# Altium integrated library Maxim Supervisors, Voltage Monitors and Sequencers.IntLib: 631 symbols (part 8 of 13)
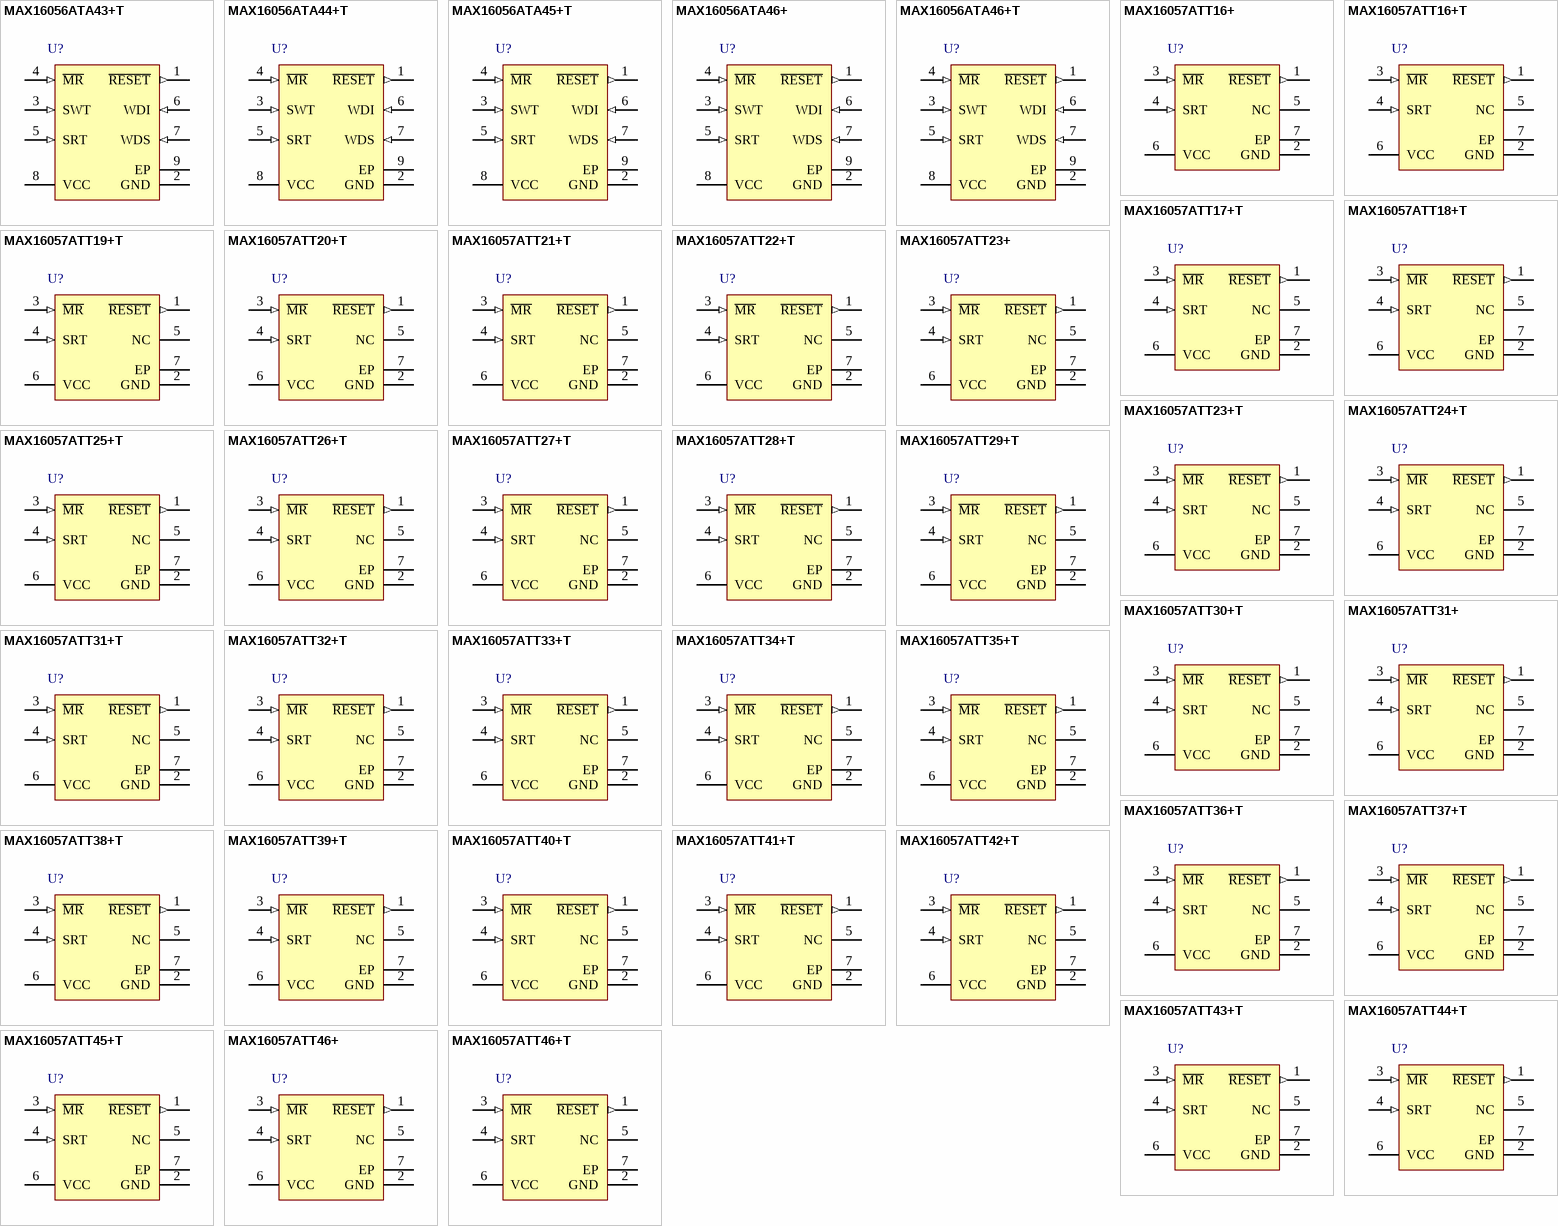
[diagram p24: symbols MAX16056ATA43+T to MAX16057ATT46+T]

## MAX16057ATT23+T
designator U?
125nA Supervisory Circuit with Capacitor-Adjustable Reset and Watchdog Timeouts, push-pull reset, 6-Pin TDFN, -40°C to +125°C, Pb-Free, Tape and Reel; DatasheetVersion: Rev 1, Jun-2010; PackageVersion: revJ, 2009; PackageReference: T633+2; PackageDescription: 6-Pin Plastic Very Very Thin Dual Flatpack No Leads, Exposed Pad, 3 x 3 x 0.8 mm Body, TDFN-EP, Pb-Free; Code_JEDEC: MO-229-WEEA; ComponentLink1Description: Manufacturer URL; ComponentLink1URL: http://www.maxim-ic.com; ComponentLink2Description: Datasheet; ComponentLink2URL: http://datasheets.maxim-ic.com/en/ds/MAX16056-MAX16059.pdf; ComponentLink3Description: Package Specification; ComponentLink3URL: http://pdfserv.maxim-ic.com/package_dwgs/21-0137.PDF
footprint T633+2_V (SON, 6-Leads, Body 3x3mm, Pitch 0.95mm, Thermal Pad 2.35x1.6mm, Maxim Recommended)
pins: 1 ~{RESET} (out), 2 GND (power), 3 ~{MR} (in), 4 SRT (in), 5 NC, 6 VCC (power), 7 EP (power)

## MAX16057ATT24+T
designator U?
125nA Supervisory Circuit with Capacitor-Adjustable Reset and Watchdog Timeouts, push-pull reset, 6-Pin TDFN, -40°C to +125°C, Pb-Free, Tape and Reel; DatasheetVersion: Rev 1, Jun-2010; PackageVersion: revJ, 2009; PackageReference: T633+2; PackageDescription: 6-Pin Plastic Very Very Thin Dual Flatpack No Leads, Exposed Pad, 3 x 3 x 0.8 mm Body, TDFN-EP, Pb-Free; Code_JEDEC: MO-229-WEEA; ComponentLink1Description: Manufacturer URL; ComponentLink1URL: http://www.maxim-ic.com; ComponentLink2Description: Datasheet; ComponentLink2URL: http://datasheets.maxim-ic.com/en/ds/MAX16056-MAX16059.pdf; ComponentLink3Description: Package Specification; ComponentLink3URL: http://pdfserv.maxim-ic.com/package_dwgs/21-0137.PDF
footprint T633+2_V (SON, 6-Leads, Body 3x3mm, Pitch 0.95mm, Thermal Pad 2.35x1.6mm, Maxim Recommended)
pins: 1 ~{RESET} (out), 2 GND (power), 3 ~{MR} (in), 4 SRT (in), 5 NC, 6 VCC (power), 7 EP (power)

## MAX16057ATT25+T
designator U?
125nA Supervisory Circuit with Capacitor-Adjustable Reset and Watchdog Timeouts, push-pull reset, 6-Pin TDFN, -40°C to +125°C, Pb-Free, Tape and Reel; DatasheetVersion: Rev 1, Jun-2010; PackageVersion: revJ, 2009; PackageReference: T633+2; PackageDescription: 6-Pin Plastic Very Very Thin Dual Flatpack No Leads, Exposed Pad, 3 x 3 x 0.8 mm Body, TDFN-EP, Pb-Free; Code_JEDEC: MO-229-WEEA; ComponentLink1Description: Manufacturer URL; ComponentLink1URL: http://www.maxim-ic.com; ComponentLink2Description: Datasheet; ComponentLink2URL: http://datasheets.maxim-ic.com/en/ds/MAX16056-MAX16059.pdf; ComponentLink3Description: Package Specification; ComponentLink3URL: http://pdfserv.maxim-ic.com/package_dwgs/21-0137.PDF
footprint T633+2_V (SON, 6-Leads, Body 3x3mm, Pitch 0.95mm, Thermal Pad 2.35x1.6mm, Maxim Recommended)
pins: 1 ~{RESET} (out), 2 GND (power), 3 ~{MR} (in), 4 SRT (in), 5 NC, 6 VCC (power), 7 EP (power)

## MAX16057ATT26+T
designator U?
125nA Supervisory Circuit with Capacitor-Adjustable Reset and Watchdog Timeouts, push-pull reset, 6-Pin TDFN, -40°C to +125°C, Pb-Free, Tape and Reel; DatasheetVersion: Rev 1, Jun-2010; PackageVersion: revJ, 2009; PackageReference: T633+2; PackageDescription: 6-Pin Plastic Very Very Thin Dual Flatpack No Leads, Exposed Pad, 3 x 3 x 0.8 mm Body, TDFN-EP, Pb-Free; Code_JEDEC: MO-229-WEEA; ComponentLink1Description: Manufacturer URL; ComponentLink1URL: http://www.maxim-ic.com; ComponentLink2Description: Datasheet; ComponentLink2URL: http://datasheets.maxim-ic.com/en/ds/MAX16056-MAX16059.pdf; ComponentLink3Description: Package Specification; ComponentLink3URL: http://pdfserv.maxim-ic.com/package_dwgs/21-0137.PDF
footprint T633+2_V (SON, 6-Leads, Body 3x3mm, Pitch 0.95mm, Thermal Pad 2.35x1.6mm, Maxim Recommended)
pins: 1 ~{RESET} (out), 2 GND (power), 3 ~{MR} (in), 4 SRT (in), 5 NC, 6 VCC (power), 7 EP (power)

## MAX16057ATT27+T
designator U?
125nA Supervisory Circuit with Capacitor-Adjustable Reset and Watchdog Timeouts, push-pull reset, 6-Pin TDFN, -40°C to +125°C, Pb-Free, Tape and Reel; DatasheetVersion: Rev 1, Jun-2010; PackageVersion: revJ, 2009; PackageReference: T633+2; PackageDescription: 6-Pin Plastic Very Very Thin Dual Flatpack No Leads, Exposed Pad, 3 x 3 x 0.8 mm Body, TDFN-EP, Pb-Free; Code_JEDEC: MO-229-WEEA; ComponentLink1Description: Manufacturer URL; ComponentLink1URL: http://www.maxim-ic.com; ComponentLink2Description: Datasheet; ComponentLink2URL: http://datasheets.maxim-ic.com/en/ds/MAX16056-MAX16059.pdf; ComponentLink3Description: Package Specification; ComponentLink3URL: http://pdfserv.maxim-ic.com/package_dwgs/21-0137.PDF
footprint T633+2_V (SON, 6-Leads, Body 3x3mm, Pitch 0.95mm, Thermal Pad 2.35x1.6mm, Maxim Recommended)
pins: 1 ~{RESET} (out), 2 GND (power), 3 ~{MR} (in), 4 SRT (in), 5 NC, 6 VCC (power), 7 EP (power)

## MAX16057ATT28+T
designator U?
125nA Supervisory Circuit with Capacitor-Adjustable Reset and Watchdog Timeouts, push-pull reset, 6-Pin TDFN, -40°C to +125°C, Pb-Free, Tape and Reel; DatasheetVersion: Rev 1, Jun-2010; PackageVersion: revJ, 2009; PackageReference: T633+2; PackageDescription: 6-Pin Plastic Very Very Thin Dual Flatpack No Leads, Exposed Pad, 3 x 3 x 0.8 mm Body, TDFN-EP, Pb-Free; Code_JEDEC: MO-229-WEEA; ComponentLink1Description: Manufacturer URL; ComponentLink1URL: http://www.maxim-ic.com; ComponentLink2Description: Datasheet; ComponentLink2URL: http://datasheets.maxim-ic.com/en/ds/MAX16056-MAX16059.pdf; ComponentLink3Description: Package Specification; ComponentLink3URL: http://pdfserv.maxim-ic.com/package_dwgs/21-0137.PDF
footprint T633+2_V (SON, 6-Leads, Body 3x3mm, Pitch 0.95mm, Thermal Pad 2.35x1.6mm, Maxim Recommended)
pins: 1 ~{RESET} (out), 2 GND (power), 3 ~{MR} (in), 4 SRT (in), 5 NC, 6 VCC (power), 7 EP (power)

## MAX16057ATT29+T
designator U?
125nA Supervisory Circuit with Capacitor-Adjustable Reset and Watchdog Timeouts, push-pull reset, 6-Pin TDFN, -40°C to +125°C, Pb-Free, Tape and Reel; DatasheetVersion: Rev 1, Jun-2010; PackageVersion: revJ, 2009; PackageReference: T633+2; PackageDescription: 6-Pin Plastic Very Very Thin Dual Flatpack No Leads, Exposed Pad, 3 x 3 x 0.8 mm Body, TDFN-EP, Pb-Free; Code_JEDEC: MO-229-WEEA; ComponentLink1Description: Manufacturer URL; ComponentLink1URL: http://www.maxim-ic.com; ComponentLink2Description: Datasheet; ComponentLink2URL: http://datasheets.maxim-ic.com/en/ds/MAX16056-MAX16059.pdf; ComponentLink3Description: Package Specification; ComponentLink3URL: http://pdfserv.maxim-ic.com/package_dwgs/21-0137.PDF
footprint T633+2_V (SON, 6-Leads, Body 3x3mm, Pitch 0.95mm, Thermal Pad 2.35x1.6mm, Maxim Recommended)
pins: 1 ~{RESET} (out), 2 GND (power), 3 ~{MR} (in), 4 SRT (in), 5 NC, 6 VCC (power), 7 EP (power)

## MAX16057ATT30+T
designator U?
125nA Supervisory Circuit with Capacitor-Adjustable Reset and Watchdog Timeouts, push-pull reset, 6-Pin TDFN, -40°C to +125°C, Pb-Free, Tape and Reel; DatasheetVersion: Rev 1, Jun-2010; PackageVersion: revJ, 2009; PackageReference: T633+2; PackageDescription: 6-Pin Plastic Very Very Thin Dual Flatpack No Leads, Exposed Pad, 3 x 3 x 0.8 mm Body, TDFN-EP, Pb-Free; Code_JEDEC: MO-229-WEEA; ComponentLink1Description: Manufacturer URL; ComponentLink1URL: http://www.maxim-ic.com; ComponentLink2Description: Datasheet; ComponentLink2URL: http://datasheets.maxim-ic.com/en/ds/MAX16056-MAX16059.pdf; ComponentLink3Description: Package Specification; ComponentLink3URL: http://pdfserv.maxim-ic.com/package_dwgs/21-0137.PDF
footprint T633+2_V (SON, 6-Leads, Body 3x3mm, Pitch 0.95mm, Thermal Pad 2.35x1.6mm, Maxim Recommended)
pins: 1 ~{RESET} (out), 2 GND (power), 3 ~{MR} (in), 4 SRT (in), 5 NC, 6 VCC (power), 7 EP (power)

## MAX16057ATT31+
designator U?
125nA Supervisory Circuit with Capacitor-Adjustable Reset and Watchdog Timeouts, push-pull reset, 6-Pin TDFN, -40°C to +125°C, Pb-Free; DatasheetVersion: Rev 1, Jun-2010; PackageVersion: revJ, 2009; PackageReference: T633+2; PackageDescription: 6-Pin Plastic Very Very Thin Dual Flatpack No Leads, Exposed Pad, 3 x 3 x 0.8 mm Body, TDFN-EP, Pb-Free; Code_JEDEC: MO-229-WEEA; ComponentLink1Description: Manufacturer URL; ComponentLink1URL: http://www.maxim-ic.com; ComponentLink2Description: Datasheet; ComponentLink2URL: http://datasheets.maxim-ic.com/en/ds/MAX16056-MAX16059.pdf; ComponentLink3Description: Package Specification; ComponentLink3URL: http://pdfserv.maxim-ic.com/package_dwgs/21-0137.PDF
footprint T633+2_V (SON, 6-Leads, Body 3x3mm, Pitch 0.95mm, Thermal Pad 2.35x1.6mm, Maxim Recommended)
pins: 1 ~{RESET} (out), 2 GND (power), 3 ~{MR} (in), 4 SRT (in), 5 NC, 6 VCC (power), 7 EP (power)

## MAX16057ATT31+T
designator U?
125nA Supervisory Circuit with Capacitor-Adjustable Reset and Watchdog Timeouts, push-pull reset, 6-Pin TDFN, -40°C to +125°C, Pb-Free, Tape and Reel; DatasheetVersion: Rev 1, Jun-2010; PackageVersion: revJ, 2009; PackageReference: T633+2; PackageDescription: 6-Pin Plastic Very Very Thin Dual Flatpack No Leads, Exposed Pad, 3 x 3 x 0.8 mm Body, TDFN-EP, Pb-Free; Code_JEDEC: MO-229-WEEA; ComponentLink1Description: Manufacturer URL; ComponentLink1URL: http://www.maxim-ic.com; ComponentLink2Description: Datasheet; ComponentLink2URL: http://datasheets.maxim-ic.com/en/ds/MAX16056-MAX16059.pdf; ComponentLink3Description: Package Specification; ComponentLink3URL: http://pdfserv.maxim-ic.com/package_dwgs/21-0137.PDF
footprint T633+2_V (SON, 6-Leads, Body 3x3mm, Pitch 0.95mm, Thermal Pad 2.35x1.6mm, Maxim Recommended)
pins: 1 ~{RESET} (out), 2 GND (power), 3 ~{MR} (in), 4 SRT (in), 5 NC, 6 VCC (power), 7 EP (power)

## MAX16057ATT32+T
designator U?
125nA Supervisory Circuit with Capacitor-Adjustable Reset and Watchdog Timeouts, push-pull reset, 6-Pin TDFN, -40°C to +125°C, Pb-Free, Tape and Reel; DatasheetVersion: Rev 1, Jun-2010; PackageVersion: revJ, 2009; PackageReference: T633+2; PackageDescription: 6-Pin Plastic Very Very Thin Dual Flatpack No Leads, Exposed Pad, 3 x 3 x 0.8 mm Body, TDFN-EP, Pb-Free; Code_JEDEC: MO-229-WEEA; ComponentLink1Description: Manufacturer URL; ComponentLink1URL: http://www.maxim-ic.com; ComponentLink2Description: Datasheet; ComponentLink2URL: http://datasheets.maxim-ic.com/en/ds/MAX16056-MAX16059.pdf; ComponentLink3Description: Package Specification; ComponentLink3URL: http://pdfserv.maxim-ic.com/package_dwgs/21-0137.PDF
footprint T633+2_V (SON, 6-Leads, Body 3x3mm, Pitch 0.95mm, Thermal Pad 2.35x1.6mm, Maxim Recommended)
pins: 1 ~{RESET} (out), 2 GND (power), 3 ~{MR} (in), 4 SRT (in), 5 NC, 6 VCC (power), 7 EP (power)

## MAX16057ATT33+T
designator U?
125nA Supervisory Circuit with Capacitor-Adjustable Reset and Watchdog Timeouts, push-pull reset, 6-Pin TDFN, -40°C to +125°C, Pb-Free, Tape and Reel; DatasheetVersion: Rev 1, Jun-2010; PackageVersion: revJ, 2009; PackageReference: T633+2; PackageDescription: 6-Pin Plastic Very Very Thin Dual Flatpack No Leads, Exposed Pad, 3 x 3 x 0.8 mm Body, TDFN-EP, Pb-Free; Code_JEDEC: MO-229-WEEA; ComponentLink1Description: Manufacturer URL; ComponentLink1URL: http://www.maxim-ic.com; ComponentLink2Description: Datasheet; ComponentLink2URL: http://datasheets.maxim-ic.com/en/ds/MAX16056-MAX16059.pdf; ComponentLink3Description: Package Specification; ComponentLink3URL: http://pdfserv.maxim-ic.com/package_dwgs/21-0137.PDF
footprint T633+2_V (SON, 6-Leads, Body 3x3mm, Pitch 0.95mm, Thermal Pad 2.35x1.6mm, Maxim Recommended)
pins: 1 ~{RESET} (out), 2 GND (power), 3 ~{MR} (in), 4 SRT (in), 5 NC, 6 VCC (power), 7 EP (power)

## MAX16057ATT34+T
designator U?
125nA Supervisory Circuit with Capacitor-Adjustable Reset and Watchdog Timeouts, push-pull reset, 6-Pin TDFN, -40°C to +125°C, Pb-Free, Tape and Reel; DatasheetVersion: Rev 1, Jun-2010; PackageVersion: revJ, 2009; PackageReference: T633+2; PackageDescription: 6-Pin Plastic Very Very Thin Dual Flatpack No Leads, Exposed Pad, 3 x 3 x 0.8 mm Body, TDFN-EP, Pb-Free; Code_JEDEC: MO-229-WEEA; ComponentLink1Description: Manufacturer URL; ComponentLink1URL: http://www.maxim-ic.com; ComponentLink2Description: Datasheet; ComponentLink2URL: http://datasheets.maxim-ic.com/en/ds/MAX16056-MAX16059.pdf; ComponentLink3Description: Package Specification; ComponentLink3URL: http://pdfserv.maxim-ic.com/package_dwgs/21-0137.PDF
footprint T633+2_V (SON, 6-Leads, Body 3x3mm, Pitch 0.95mm, Thermal Pad 2.35x1.6mm, Maxim Recommended)
pins: 1 ~{RESET} (out), 2 GND (power), 3 ~{MR} (in), 4 SRT (in), 5 NC, 6 VCC (power), 7 EP (power)

## MAX16057ATT35+T
designator U?
125nA Supervisory Circuit with Capacitor-Adjustable Reset and Watchdog Timeouts, push-pull reset, 6-Pin TDFN, -40°C to +125°C, Pb-Free, Tape and Reel; DatasheetVersion: Rev 1, Jun-2010; PackageVersion: revJ, 2009; PackageReference: T633+2; PackageDescription: 6-Pin Plastic Very Very Thin Dual Flatpack No Leads, Exposed Pad, 3 x 3 x 0.8 mm Body, TDFN-EP, Pb-Free; Code_JEDEC: MO-229-WEEA; ComponentLink1Description: Manufacturer URL; ComponentLink1URL: http://www.maxim-ic.com; ComponentLink2Description: Datasheet; ComponentLink2URL: http://datasheets.maxim-ic.com/en/ds/MAX16056-MAX16059.pdf; ComponentLink3Description: Package Specification; ComponentLink3URL: http://pdfserv.maxim-ic.com/package_dwgs/21-0137.PDF
footprint T633+2_V (SON, 6-Leads, Body 3x3mm, Pitch 0.95mm, Thermal Pad 2.35x1.6mm, Maxim Recommended)
pins: 1 ~{RESET} (out), 2 GND (power), 3 ~{MR} (in), 4 SRT (in), 5 NC, 6 VCC (power), 7 EP (power)

## MAX16057ATT36+T
designator U?
125nA Supervisory Circuit with Capacitor-Adjustable Reset and Watchdog Timeouts, push-pull reset, 6-Pin TDFN, -40°C to +125°C, Pb-Free, Tape and Reel; DatasheetVersion: Rev 1, Jun-2010; PackageVersion: revJ, 2009; PackageReference: T633+2; PackageDescription: 6-Pin Plastic Very Very Thin Dual Flatpack No Leads, Exposed Pad, 3 x 3 x 0.8 mm Body, TDFN-EP, Pb-Free; Code_JEDEC: MO-229-WEEA; ComponentLink1Description: Manufacturer URL; ComponentLink1URL: http://www.maxim-ic.com; ComponentLink2Description: Datasheet; ComponentLink2URL: http://datasheets.maxim-ic.com/en/ds/MAX16056-MAX16059.pdf; ComponentLink3Description: Package Specification; ComponentLink3URL: http://pdfserv.maxim-ic.com/package_dwgs/21-0137.PDF
footprint T633+2_V (SON, 6-Leads, Body 3x3mm, Pitch 0.95mm, Thermal Pad 2.35x1.6mm, Maxim Recommended)
pins: 1 ~{RESET} (out), 2 GND (power), 3 ~{MR} (in), 4 SRT (in), 5 NC, 6 VCC (power), 7 EP (power)

## MAX16057ATT37+T
designator U?
125nA Supervisory Circuit with Capacitor-Adjustable Reset and Watchdog Timeouts, push-pull reset, 6-Pin TDFN, -40°C to +125°C, Pb-Free, Tape and Reel; DatasheetVersion: Rev 1, Jun-2010; PackageVersion: revJ, 2009; PackageReference: T633+2; PackageDescription: 6-Pin Plastic Very Very Thin Dual Flatpack No Leads, Exposed Pad, 3 x 3 x 0.8 mm Body, TDFN-EP, Pb-Free; Code_JEDEC: MO-229-WEEA; ComponentLink1Description: Manufacturer URL; ComponentLink1URL: http://www.maxim-ic.com; ComponentLink2Description: Datasheet; ComponentLink2URL: http://datasheets.maxim-ic.com/en/ds/MAX16056-MAX16059.pdf; ComponentLink3Description: Package Specification; ComponentLink3URL: http://pdfserv.maxim-ic.com/package_dwgs/21-0137.PDF
footprint T633+2_V (SON, 6-Leads, Body 3x3mm, Pitch 0.95mm, Thermal Pad 2.35x1.6mm, Maxim Recommended)
pins: 1 ~{RESET} (out), 2 GND (power), 3 ~{MR} (in), 4 SRT (in), 5 NC, 6 VCC (power), 7 EP (power)

## MAX16057ATT38+T
designator U?
125nA Supervisory Circuit with Capacitor-Adjustable Reset and Watchdog Timeouts, push-pull reset, 6-Pin TDFN, -40°C to +125°C, Pb-Free, Tape and Reel; DatasheetVersion: Rev 1, Jun-2010; PackageVersion: revJ, 2009; PackageReference: T633+2; PackageDescription: 6-Pin Plastic Very Very Thin Dual Flatpack No Leads, Exposed Pad, 3 x 3 x 0.8 mm Body, TDFN-EP, Pb-Free; Code_JEDEC: MO-229-WEEA; ComponentLink1Description: Manufacturer URL; ComponentLink1URL: http://www.maxim-ic.com; ComponentLink2Description: Datasheet; ComponentLink2URL: http://datasheets.maxim-ic.com/en/ds/MAX16056-MAX16059.pdf; ComponentLink3Description: Package Specification; ComponentLink3URL: http://pdfserv.maxim-ic.com/package_dwgs/21-0137.PDF
footprint T633+2_V (SON, 6-Leads, Body 3x3mm, Pitch 0.95mm, Thermal Pad 2.35x1.6mm, Maxim Recommended)
pins: 1 ~{RESET} (out), 2 GND (power), 3 ~{MR} (in), 4 SRT (in), 5 NC, 6 VCC (power), 7 EP (power)

## MAX16057ATT39+T
designator U?
125nA Supervisory Circuit with Capacitor-Adjustable Reset and Watchdog Timeouts, push-pull reset, 6-Pin TDFN, -40°C to +125°C, Pb-Free, Tape and Reel; DatasheetVersion: Rev 1, Jun-2010; PackageVersion: revJ, 2009; PackageReference: T633+2; PackageDescription: 6-Pin Plastic Very Very Thin Dual Flatpack No Leads, Exposed Pad, 3 x 3 x 0.8 mm Body, TDFN-EP, Pb-Free; Code_JEDEC: MO-229-WEEA; ComponentLink1Description: Manufacturer URL; ComponentLink1URL: http://www.maxim-ic.com; ComponentLink2Description: Datasheet; ComponentLink2URL: http://datasheets.maxim-ic.com/en/ds/MAX16056-MAX16059.pdf; ComponentLink3Description: Package Specification; ComponentLink3URL: http://pdfserv.maxim-ic.com/package_dwgs/21-0137.PDF
footprint T633+2_V (SON, 6-Leads, Body 3x3mm, Pitch 0.95mm, Thermal Pad 2.35x1.6mm, Maxim Recommended)
pins: 1 ~{RESET} (out), 2 GND (power), 3 ~{MR} (in), 4 SRT (in), 5 NC, 6 VCC (power), 7 EP (power)

## MAX16057ATT40+T
designator U?
125nA Supervisory Circuit with Capacitor-Adjustable Reset and Watchdog Timeouts, push-pull reset, 6-Pin TDFN, -40°C to +125°C, Pb-Free, Tape and Reel; DatasheetVersion: Rev 1, Jun-2010; PackageVersion: revJ, 2009; PackageReference: T633+2; PackageDescription: 6-Pin Plastic Very Very Thin Dual Flatpack No Leads, Exposed Pad, 3 x 3 x 0.8 mm Body, TDFN-EP, Pb-Free; Code_JEDEC: MO-229-WEEA; ComponentLink1Description: Manufacturer URL; ComponentLink1URL: http://www.maxim-ic.com; ComponentLink2Description: Datasheet; ComponentLink2URL: http://datasheets.maxim-ic.com/en/ds/MAX16056-MAX16059.pdf; ComponentLink3Description: Package Specification; ComponentLink3URL: http://pdfserv.maxim-ic.com/package_dwgs/21-0137.PDF
footprint T633+2_V (SON, 6-Leads, Body 3x3mm, Pitch 0.95mm, Thermal Pad 2.35x1.6mm, Maxim Recommended)
pins: 1 ~{RESET} (out), 2 GND (power), 3 ~{MR} (in), 4 SRT (in), 5 NC, 6 VCC (power), 7 EP (power)

## MAX16057ATT41+T
designator U?
125nA Supervisory Circuit with Capacitor-Adjustable Reset and Watchdog Timeouts, push-pull reset, 6-Pin TDFN, -40°C to +125°C, Pb-Free, Tape and Reel; DatasheetVersion: Rev 1, Jun-2010; PackageVersion: revJ, 2009; PackageReference: T633+2; PackageDescription: 6-Pin Plastic Very Very Thin Dual Flatpack No Leads, Exposed Pad, 3 x 3 x 0.8 mm Body, TDFN-EP, Pb-Free; Code_JEDEC: MO-229-WEEA; ComponentLink1Description: Manufacturer URL; ComponentLink1URL: http://www.maxim-ic.com; ComponentLink2Description: Datasheet; ComponentLink2URL: http://datasheets.maxim-ic.com/en/ds/MAX16056-MAX16059.pdf; ComponentLink3Description: Package Specification; ComponentLink3URL: http://pdfserv.maxim-ic.com/package_dwgs/21-0137.PDF
footprint T633+2_V (SON, 6-Leads, Body 3x3mm, Pitch 0.95mm, Thermal Pad 2.35x1.6mm, Maxim Recommended)
pins: 1 ~{RESET} (out), 2 GND (power), 3 ~{MR} (in), 4 SRT (in), 5 NC, 6 VCC (power), 7 EP (power)

## MAX16057ATT42+T
designator U?
125nA Supervisory Circuit with Capacitor-Adjustable Reset and Watchdog Timeouts, push-pull reset, 6-Pin TDFN, -40°C to +125°C, Pb-Free, Tape and Reel; DatasheetVersion: Rev 1, Jun-2010; PackageVersion: revJ, 2009; PackageReference: T633+2; PackageDescription: 6-Pin Plastic Very Very Thin Dual Flatpack No Leads, Exposed Pad, 3 x 3 x 0.8 mm Body, TDFN-EP, Pb-Free; Code_JEDEC: MO-229-WEEA; ComponentLink1Description: Manufacturer URL; ComponentLink1URL: http://www.maxim-ic.com; ComponentLink2Description: Datasheet; ComponentLink2URL: http://datasheets.maxim-ic.com/en/ds/MAX16056-MAX16059.pdf; ComponentLink3Description: Package Specification; ComponentLink3URL: http://pdfserv.maxim-ic.com/package_dwgs/21-0137.PDF
footprint T633+2_V (SON, 6-Leads, Body 3x3mm, Pitch 0.95mm, Thermal Pad 2.35x1.6mm, Maxim Recommended)
pins: 1 ~{RESET} (out), 2 GND (power), 3 ~{MR} (in), 4 SRT (in), 5 NC, 6 VCC (power), 7 EP (power)

## MAX16057ATT43+T
designator U?
125nA Supervisory Circuit with Capacitor-Adjustable Reset and Watchdog Timeouts, push-pull reset, 6-Pin TDFN, -40°C to +125°C, Pb-Free, Tape and Reel; DatasheetVersion: Rev 1, Jun-2010; PackageVersion: revJ, 2009; PackageReference: T633+2; PackageDescription: 6-Pin Plastic Very Very Thin Dual Flatpack No Leads, Exposed Pad, 3 x 3 x 0.8 mm Body, TDFN-EP, Pb-Free; Code_JEDEC: MO-229-WEEA; ComponentLink1Description: Manufacturer URL; ComponentLink1URL: http://www.maxim-ic.com; ComponentLink2Description: Datasheet; ComponentLink2URL: http://datasheets.maxim-ic.com/en/ds/MAX16056-MAX16059.pdf; ComponentLink3Description: Package Specification; ComponentLink3URL: http://pdfserv.maxim-ic.com/package_dwgs/21-0137.PDF
footprint T633+2_V (SON, 6-Leads, Body 3x3mm, Pitch 0.95mm, Thermal Pad 2.35x1.6mm, Maxim Recommended)
pins: 1 ~{RESET} (out), 2 GND (power), 3 ~{MR} (in), 4 SRT (in), 5 NC, 6 VCC (power), 7 EP (power)

## MAX16057ATT44+T
designator U?
125nA Supervisory Circuit with Capacitor-Adjustable Reset and Watchdog Timeouts, push-pull reset, 6-Pin TDFN, -40°C to +125°C, Pb-Free, Tape and Reel; DatasheetVersion: Rev 1, Jun-2010; PackageVersion: revJ, 2009; PackageReference: T633+2; PackageDescription: 6-Pin Plastic Very Very Thin Dual Flatpack No Leads, Exposed Pad, 3 x 3 x 0.8 mm Body, TDFN-EP, Pb-Free; Code_JEDEC: MO-229-WEEA; ComponentLink1Description: Manufacturer URL; ComponentLink1URL: http://www.maxim-ic.com; ComponentLink2Description: Datasheet; ComponentLink2URL: http://datasheets.maxim-ic.com/en/ds/MAX16056-MAX16059.pdf; ComponentLink3Description: Package Specification; ComponentLink3URL: http://pdfserv.maxim-ic.com/package_dwgs/21-0137.PDF
footprint T633+2_V (SON, 6-Leads, Body 3x3mm, Pitch 0.95mm, Thermal Pad 2.35x1.6mm, Maxim Recommended)
pins: 1 ~{RESET} (out), 2 GND (power), 3 ~{MR} (in), 4 SRT (in), 5 NC, 6 VCC (power), 7 EP (power)

## MAX16057ATT45+T
designator U?
125nA Supervisory Circuit with Capacitor-Adjustable Reset and Watchdog Timeouts, push-pull reset, 6-Pin TDFN, -40°C to +125°C, Pb-Free, Tape and Reel; DatasheetVersion: Rev 1, Jun-2010; PackageVersion: revJ, 2009; PackageReference: T633+2; PackageDescription: 6-Pin Plastic Very Very Thin Dual Flatpack No Leads, Exposed Pad, 3 x 3 x 0.8 mm Body, TDFN-EP, Pb-Free; Code_JEDEC: MO-229-WEEA; ComponentLink1Description: Manufacturer URL; ComponentLink1URL: http://www.maxim-ic.com; ComponentLink2Description: Datasheet; ComponentLink2URL: http://datasheets.maxim-ic.com/en/ds/MAX16056-MAX16059.pdf; ComponentLink3Description: Package Specification; ComponentLink3URL: http://pdfserv.maxim-ic.com/package_dwgs/21-0137.PDF
footprint T633+2_V (SON, 6-Leads, Body 3x3mm, Pitch 0.95mm, Thermal Pad 2.35x1.6mm, Maxim Recommended)
pins: 1 ~{RESET} (out), 2 GND (power), 3 ~{MR} (in), 4 SRT (in), 5 NC, 6 VCC (power), 7 EP (power)

## MAX16057ATT46+
designator U?
125nA Supervisory Circuit with Capacitor-Adjustable Reset and Watchdog Timeouts, push-pull reset, 6-Pin TDFN, -40°C to +125°C, Pb-Free; DatasheetVersion: Rev 1, Jun-2010; PackageVersion: revJ, 2009; PackageReference: T633+2; PackageDescription: 6-Pin Plastic Very Very Thin Dual Flatpack No Leads, Exposed Pad, 3 x 3 x 0.8 mm Body, TDFN-EP, Pb-Free; Code_JEDEC: MO-229-WEEA; ComponentLink1Description: Manufacturer URL; ComponentLink1URL: http://www.maxim-ic.com; ComponentLink2Description: Datasheet; ComponentLink2URL: http://datasheets.maxim-ic.com/en/ds/MAX16056-MAX16059.pdf; ComponentLink3Description: Package Specification; ComponentLink3URL: http://pdfserv.maxim-ic.com/package_dwgs/21-0137.PDF
footprint T633+2_V (SON, 6-Leads, Body 3x3mm, Pitch 0.95mm, Thermal Pad 2.35x1.6mm, Maxim Recommended)
pins: 1 ~{RESET} (out), 2 GND (power), 3 ~{MR} (in), 4 SRT (in), 5 NC, 6 VCC (power), 7 EP (power)

## MAX16057ATT46+T
designator U?
125nA Supervisory Circuit with Capacitor-Adjustable Reset and Watchdog Timeouts, push-pull reset, 6-Pin TDFN, -40°C to +125°C, Pb-Free, Tape and Reel; DatasheetVersion: Rev 1, Jun-2010; PackageVersion: revJ, 2009; PackageReference: T633+2; PackageDescription: 6-Pin Plastic Very Very Thin Dual Flatpack No Leads, Exposed Pad, 3 x 3 x 0.8 mm Body, TDFN-EP, Pb-Free; Code_JEDEC: MO-229-WEEA; ComponentLink1Description: Manufacturer URL; ComponentLink1URL: http://www.maxim-ic.com; ComponentLink2Description: Datasheet; ComponentLink2URL: http://datasheets.maxim-ic.com/en/ds/MAX16056-MAX16059.pdf; ComponentLink3Description: Package Specification; ComponentLink3URL: http://pdfserv.maxim-ic.com/package_dwgs/21-0137.PDF
footprint T633+2_V (SON, 6-Leads, Body 3x3mm, Pitch 0.95mm, Thermal Pad 2.35x1.6mm, Maxim Recommended)
pins: 1 ~{RESET} (out), 2 GND (power), 3 ~{MR} (in), 4 SRT (in), 5 NC, 6 VCC (power), 7 EP (power)

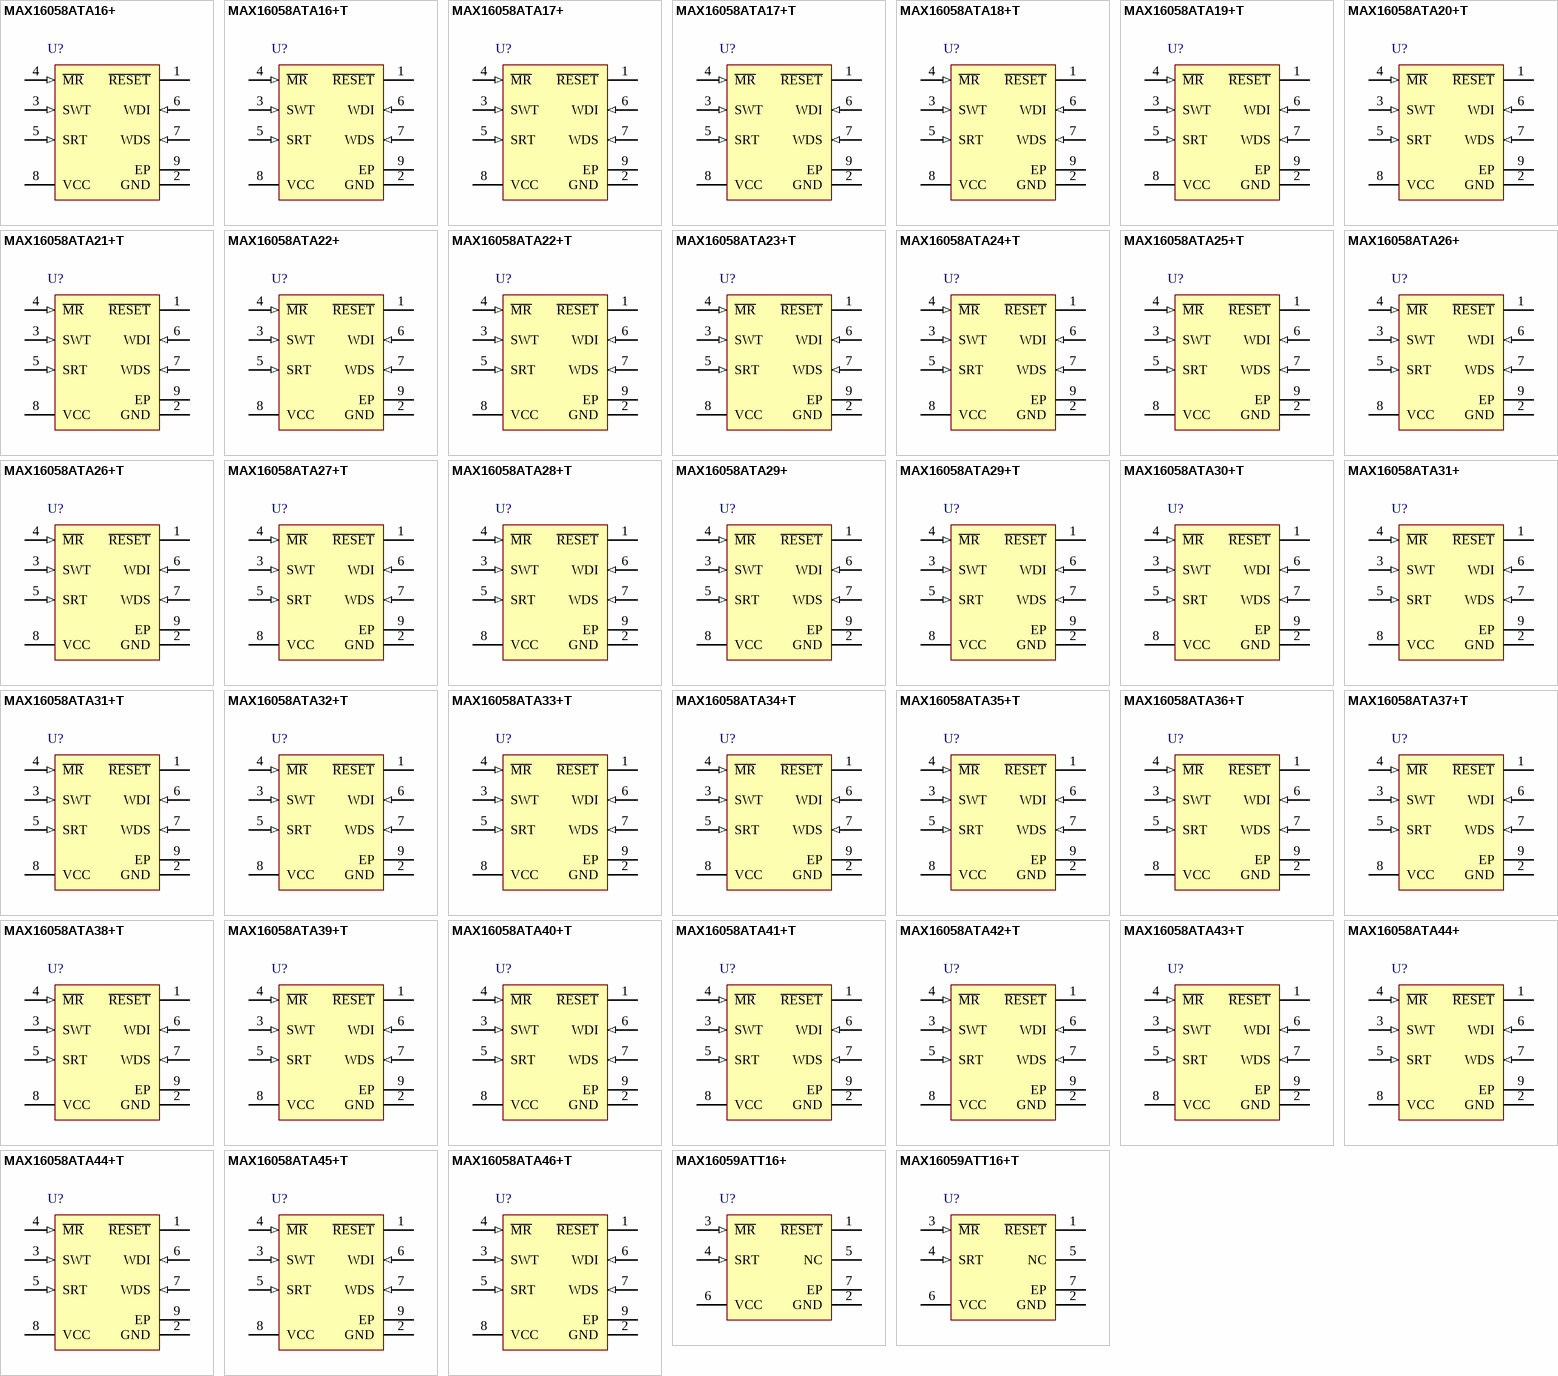
[diagram p10: symbols MAX16058ATA16+ to MAX16059ATT16+T]

## MAX16058ATA16+
designator U?
125nA Supervisory Circuit with Capacitor-Adjustable Reset and Watchdog Timeouts, open-drain reset, Watch-dog timer, 8-Pin TDFN, -40°C to +125°C, Pb-Free; DatasheetVersion: Rev 1, Jun-2010; PackageVersion: revJ, 2009; PackageReference: T833+2; PackageDescription: 8-Pin Plastic Very Very Thin Dual Flatpack No Leads, Exposed Pad, 3 x 3 x 0.8 mm Body, TDFN-EP, Pb-Free; Code_JEDEC: MO-229-WEEC; ComponentLink1Description: Manufacturer URL; ComponentLink1URL: http://www.maxim-ic.com; ComponentLink2Description: Datasheet; ComponentLink2URL: http://datasheets.maxim-ic.com/en/ds/MAX16056-MAX16059.pdf; ComponentLink3Description: Package Specification; ComponentLink3URL: http://pdfserv.maxim-ic.com/package_dwgs/21-0137.PDF
footprint T833+2 (SON, 8-Leads, Body 3x3 mm, Pitch 0.65mm, Thermal Pad 2.35x1.58mm, Maxim Recommended)
pins: 1 ~{RESET} (oc), 2 GND (power), 3 SWT (in), 4 ~{MR} (in), 5 SRT (in), 6 WDI (in), 7 WDS (in), 8 VCC (power), 9 EP (power)

## MAX16058ATA16+T
designator U?
125nA Supervisory Circuit with Capacitor-Adjustable Reset and Watchdog Timeouts, open-drain reset, Watch-dog timer, 8-Pin TDFN, -40°C to +125°C, Pb-Free, Tape and Reel; DatasheetVersion: Rev 1, Jun-2010; PackageVersion: revJ, 2009; PackageReference: T833+2; PackageDescription: 8-Pin Plastic Very Very Thin Dual Flatpack No Leads, Exposed Pad, 3 x 3 x 0.8 mm Body, TDFN-EP, Pb-Free; Code_JEDEC: MO-229-WEEC; ComponentLink1Description: Manufacturer URL; ComponentLink1URL: http://www.maxim-ic.com; ComponentLink2Description: Datasheet; ComponentLink2URL: http://datasheets.maxim-ic.com/en/ds/MAX16056-MAX16059.pdf; ComponentLink3Description: Package Specification; ComponentLink3URL: http://pdfserv.maxim-ic.com/package_dwgs/21-0137.PDF
footprint T833+2 (SON, 8-Leads, Body 3x3 mm, Pitch 0.65mm, Thermal Pad 2.35x1.58mm, Maxim Recommended)
pins: 1 ~{RESET} (oc), 2 GND (power), 3 SWT (in), 4 ~{MR} (in), 5 SRT (in), 6 WDI (in), 7 WDS (in), 8 VCC (power), 9 EP (power)

## MAX16058ATA17+
designator U?
125nA Supervisory Circuit with Capacitor-Adjustable Reset and Watchdog Timeouts, open-drain reset, Watch-dog timer, 8-Pin TDFN, -40°C to +125°C, Pb-Free; DatasheetVersion: Rev 1, Jun-2010; PackageVersion: revJ, 2009; PackageReference: T833+2; PackageDescription: 8-Pin Plastic Very Very Thin Dual Flatpack No Leads, Exposed Pad, 3 x 3 x 0.8 mm Body, TDFN-EP, Pb-Free; Code_JEDEC: MO-229-WEEC; ComponentLink1Description: Manufacturer URL; ComponentLink1URL: http://www.maxim-ic.com; ComponentLink2Description: Datasheet; ComponentLink2URL: http://datasheets.maxim-ic.com/en/ds/MAX16056-MAX16059.pdf; ComponentLink3Description: Package Specification; ComponentLink3URL: http://pdfserv.maxim-ic.com/package_dwgs/21-0137.PDF
footprint T833+2 (SON, 8-Leads, Body 3x3 mm, Pitch 0.65mm, Thermal Pad 2.35x1.58mm, Maxim Recommended)
pins: 1 ~{RESET} (oc), 2 GND (power), 3 SWT (in), 4 ~{MR} (in), 5 SRT (in), 6 WDI (in), 7 WDS (in), 8 VCC (power), 9 EP (power)

## MAX16058ATA17+T
designator U?
125nA Supervisory Circuit with Capacitor-Adjustable Reset and Watchdog Timeouts, open-drain reset, Watch-dog timer, 8-Pin TDFN, -40°C to +125°C, Pb-Free, Tape and Reel; DatasheetVersion: Rev 1, Jun-2010; PackageVersion: revJ, 2009; PackageReference: T833+2; PackageDescription: 8-Pin Plastic Very Very Thin Dual Flatpack No Leads, Exposed Pad, 3 x 3 x 0.8 mm Body, TDFN-EP, Pb-Free; Code_JEDEC: MO-229-WEEC; ComponentLink1Description: Manufacturer URL; ComponentLink1URL: http://www.maxim-ic.com; ComponentLink2Description: Datasheet; ComponentLink2URL: http://datasheets.maxim-ic.com/en/ds/MAX16056-MAX16059.pdf; ComponentLink3Description: Package Specification; ComponentLink3URL: http://pdfserv.maxim-ic.com/package_dwgs/21-0137.PDF
footprint T833+2 (SON, 8-Leads, Body 3x3 mm, Pitch 0.65mm, Thermal Pad 2.35x1.58mm, Maxim Recommended)
pins: 1 ~{RESET} (oc), 2 GND (power), 3 SWT (in), 4 ~{MR} (in), 5 SRT (in), 6 WDI (in), 7 WDS (in), 8 VCC (power), 9 EP (power)

## MAX16058ATA18+T
designator U?
125nA Supervisory Circuit with Capacitor-Adjustable Reset and Watchdog Timeouts, open-drain reset, Watch-dog timer, 8-Pin TDFN, -40°C to +125°C, Pb-Free, Tape and Reel; DatasheetVersion: Rev 1, Jun-2010; PackageVersion: revJ, 2009; PackageReference: T833+2; PackageDescription: 8-Pin Plastic Very Very Thin Dual Flatpack No Leads, Exposed Pad, 3 x 3 x 0.8 mm Body, TDFN-EP, Pb-Free; Code_JEDEC: MO-229-WEEC; ComponentLink1Description: Manufacturer URL; ComponentLink1URL: http://www.maxim-ic.com; ComponentLink2Description: Datasheet; ComponentLink2URL: http://datasheets.maxim-ic.com/en/ds/MAX16056-MAX16059.pdf; ComponentLink3Description: Package Specification; ComponentLink3URL: http://pdfserv.maxim-ic.com/package_dwgs/21-0137.PDF
footprint T833+2 (SON, 8-Leads, Body 3x3 mm, Pitch 0.65mm, Thermal Pad 2.35x1.58mm, Maxim Recommended)
pins: 1 ~{RESET} (oc), 2 GND (power), 3 SWT (in), 4 ~{MR} (in), 5 SRT (in), 6 WDI (in), 7 WDS (in), 8 VCC (power), 9 EP (power)

## MAX16058ATA19+T
designator U?
125nA Supervisory Circuit with Capacitor-Adjustable Reset and Watchdog Timeouts, open-drain reset, Watch-dog timer, 8-Pin TDFN, -40°C to +125°C, Pb-Free, Tape and Reel; DatasheetVersion: Rev 1, Jun-2010; PackageVersion: revJ, 2009; PackageReference: T833+2; PackageDescription: 8-Pin Plastic Very Very Thin Dual Flatpack No Leads, Exposed Pad, 3 x 3 x 0.8 mm Body, TDFN-EP, Pb-Free; Code_JEDEC: MO-229-WEEC; ComponentLink1Description: Manufacturer URL; ComponentLink1URL: http://www.maxim-ic.com; ComponentLink2Description: Datasheet; ComponentLink2URL: http://datasheets.maxim-ic.com/en/ds/MAX16056-MAX16059.pdf; ComponentLink3Description: Package Specification; ComponentLink3URL: http://pdfserv.maxim-ic.com/package_dwgs/21-0137.PDF
footprint T833+2 (SON, 8-Leads, Body 3x3 mm, Pitch 0.65mm, Thermal Pad 2.35x1.58mm, Maxim Recommended)
pins: 1 ~{RESET} (oc), 2 GND (power), 3 SWT (in), 4 ~{MR} (in), 5 SRT (in), 6 WDI (in), 7 WDS (in), 8 VCC (power), 9 EP (power)

## MAX16058ATA20+T
designator U?
125nA Supervisory Circuit with Capacitor-Adjustable Reset and Watchdog Timeouts, open-drain reset, Watch-dog timer, 8-Pin TDFN, -40°C to +125°C, Pb-Free, Tape and Reel; DatasheetVersion: Rev 1, Jun-2010; PackageVersion: revJ, 2009; PackageReference: T833+2; PackageDescription: 8-Pin Plastic Very Very Thin Dual Flatpack No Leads, Exposed Pad, 3 x 3 x 0.8 mm Body, TDFN-EP, Pb-Free; Code_JEDEC: MO-229-WEEC; ComponentLink1Description: Manufacturer URL; ComponentLink1URL: http://www.maxim-ic.com; ComponentLink2Description: Datasheet; ComponentLink2URL: http://datasheets.maxim-ic.com/en/ds/MAX16056-MAX16059.pdf; ComponentLink3Description: Package Specification; ComponentLink3URL: http://pdfserv.maxim-ic.com/package_dwgs/21-0137.PDF
footprint T833+2 (SON, 8-Leads, Body 3x3 mm, Pitch 0.65mm, Thermal Pad 2.35x1.58mm, Maxim Recommended)
pins: 1 ~{RESET} (oc), 2 GND (power), 3 SWT (in), 4 ~{MR} (in), 5 SRT (in), 6 WDI (in), 7 WDS (in), 8 VCC (power), 9 EP (power)

## MAX16058ATA21+T
designator U?
125nA Supervisory Circuit with Capacitor-Adjustable Reset and Watchdog Timeouts, open-drain reset, Watch-dog timer, 8-Pin TDFN, -40°C to +125°C, Pb-Free, Tape and Reel; DatasheetVersion: Rev 1, Jun-2010; PackageVersion: revJ, 2009; PackageReference: T833+2; PackageDescription: 8-Pin Plastic Very Very Thin Dual Flatpack No Leads, Exposed Pad, 3 x 3 x 0.8 mm Body, TDFN-EP, Pb-Free; Code_JEDEC: MO-229-WEEC; ComponentLink1Description: Manufacturer URL; ComponentLink1URL: http://www.maxim-ic.com; ComponentLink2Description: Datasheet; ComponentLink2URL: http://datasheets.maxim-ic.com/en/ds/MAX16056-MAX16059.pdf; ComponentLink3Description: Package Specification; ComponentLink3URL: http://pdfserv.maxim-ic.com/package_dwgs/21-0137.PDF
footprint T833+2 (SON, 8-Leads, Body 3x3 mm, Pitch 0.65mm, Thermal Pad 2.35x1.58mm, Maxim Recommended)
pins: 1 ~{RESET} (oc), 2 GND (power), 3 SWT (in), 4 ~{MR} (in), 5 SRT (in), 6 WDI (in), 7 WDS (in), 8 VCC (power), 9 EP (power)

## MAX16058ATA22+
designator U?
125nA Supervisory Circuit with Capacitor-Adjustable Reset and Watchdog Timeouts, open-drain reset, Watch-dog timer, 8-Pin TDFN, -40°C to +125°C, Pb-Free; DatasheetVersion: Rev 1, Jun-2010; PackageVersion: revJ, 2009; PackageReference: T833+2; PackageDescription: 8-Pin Plastic Very Very Thin Dual Flatpack No Leads, Exposed Pad, 3 x 3 x 0.8 mm Body, TDFN-EP, Pb-Free; Code_JEDEC: MO-229-WEEC; ComponentLink1Description: Manufacturer URL; ComponentLink1URL: http://www.maxim-ic.com; ComponentLink2Description: Datasheet; ComponentLink2URL: http://datasheets.maxim-ic.com/en/ds/MAX16056-MAX16059.pdf; ComponentLink3Description: Package Specification; ComponentLink3URL: http://pdfserv.maxim-ic.com/package_dwgs/21-0137.PDF
footprint T833+2 (SON, 8-Leads, Body 3x3 mm, Pitch 0.65mm, Thermal Pad 2.35x1.58mm, Maxim Recommended)
pins: 1 ~{RESET} (oc), 2 GND (power), 3 SWT (in), 4 ~{MR} (in), 5 SRT (in), 6 WDI (in), 7 WDS (in), 8 VCC (power), 9 EP (power)

## MAX16058ATA22+T
designator U?
125nA Supervisory Circuit with Capacitor-Adjustable Reset and Watchdog Timeouts, open-drain reset, Watch-dog timer, 8-Pin TDFN, -40°C to +125°C, Pb-Free, Tape and Reel; DatasheetVersion: Rev 1, Jun-2010; PackageVersion: revJ, 2009; PackageReference: T833+2; PackageDescription: 8-Pin Plastic Very Very Thin Dual Flatpack No Leads, Exposed Pad, 3 x 3 x 0.8 mm Body, TDFN-EP, Pb-Free; Code_JEDEC: MO-229-WEEC; ComponentLink1Description: Manufacturer URL; ComponentLink1URL: http://www.maxim-ic.com; ComponentLink2Description: Datasheet; ComponentLink2URL: http://datasheets.maxim-ic.com/en/ds/MAX16056-MAX16059.pdf; ComponentLink3Description: Package Specification; ComponentLink3URL: http://pdfserv.maxim-ic.com/package_dwgs/21-0137.PDF
footprint T833+2 (SON, 8-Leads, Body 3x3 mm, Pitch 0.65mm, Thermal Pad 2.35x1.58mm, Maxim Recommended)
pins: 1 ~{RESET} (oc), 2 GND (power), 3 SWT (in), 4 ~{MR} (in), 5 SRT (in), 6 WDI (in), 7 WDS (in), 8 VCC (power), 9 EP (power)

## MAX16058ATA23+T
designator U?
125nA Supervisory Circuit with Capacitor-Adjustable Reset and Watchdog Timeouts, open-drain reset, Watch-dog timer, 8-Pin TDFN, -40°C to +125°C, Pb-Free, Tape and Reel; DatasheetVersion: Rev 1, Jun-2010; PackageVersion: revJ, 2009; PackageReference: T833+2; PackageDescription: 8-Pin Plastic Very Very Thin Dual Flatpack No Leads, Exposed Pad, 3 x 3 x 0.8 mm Body, TDFN-EP, Pb-Free; Code_JEDEC: MO-229-WEEC; ComponentLink1Description: Manufacturer URL; ComponentLink1URL: http://www.maxim-ic.com; ComponentLink2Description: Datasheet; ComponentLink2URL: http://datasheets.maxim-ic.com/en/ds/MAX16056-MAX16059.pdf; ComponentLink3Description: Package Specification; ComponentLink3URL: http://pdfserv.maxim-ic.com/package_dwgs/21-0137.PDF
footprint T833+2 (SON, 8-Leads, Body 3x3 mm, Pitch 0.65mm, Thermal Pad 2.35x1.58mm, Maxim Recommended)
pins: 1 ~{RESET} (oc), 2 GND (power), 3 SWT (in), 4 ~{MR} (in), 5 SRT (in), 6 WDI (in), 7 WDS (in), 8 VCC (power), 9 EP (power)

## MAX16058ATA24+T
designator U?
125nA Supervisory Circuit with Capacitor-Adjustable Reset and Watchdog Timeouts, open-drain reset, Watch-dog timer, 8-Pin TDFN, -40°C to +125°C, Pb-Free, Tape and Reel; DatasheetVersion: Rev 1, Jun-2010; PackageVersion: revJ, 2009; PackageReference: T833+2; PackageDescription: 8-Pin Plastic Very Very Thin Dual Flatpack No Leads, Exposed Pad, 3 x 3 x 0.8 mm Body, TDFN-EP, Pb-Free; Code_JEDEC: MO-229-WEEC; ComponentLink1Description: Manufacturer URL; ComponentLink1URL: http://www.maxim-ic.com; ComponentLink2Description: Datasheet; ComponentLink2URL: http://datasheets.maxim-ic.com/en/ds/MAX16056-MAX16059.pdf; ComponentLink3Description: Package Specification; ComponentLink3URL: http://pdfserv.maxim-ic.com/package_dwgs/21-0137.PDF
footprint T833+2 (SON, 8-Leads, Body 3x3 mm, Pitch 0.65mm, Thermal Pad 2.35x1.58mm, Maxim Recommended)
pins: 1 ~{RESET} (oc), 2 GND (power), 3 SWT (in), 4 ~{MR} (in), 5 SRT (in), 6 WDI (in), 7 WDS (in), 8 VCC (power), 9 EP (power)

## MAX16058ATA25+T
designator U?
125nA Supervisory Circuit with Capacitor-Adjustable Reset and Watchdog Timeouts, open-drain reset, Watch-dog timer, 8-Pin TDFN, -40°C to +125°C, Pb-Free, Tape and Reel; DatasheetVersion: Rev 1, Jun-2010; PackageVersion: revJ, 2009; PackageReference: T833+2; PackageDescription: 8-Pin Plastic Very Very Thin Dual Flatpack No Leads, Exposed Pad, 3 x 3 x 0.8 mm Body, TDFN-EP, Pb-Free; Code_JEDEC: MO-229-WEEC; ComponentLink1Description: Manufacturer URL; ComponentLink1URL: http://www.maxim-ic.com; ComponentLink2Description: Datasheet; ComponentLink2URL: http://datasheets.maxim-ic.com/en/ds/MAX16056-MAX16059.pdf; ComponentLink3Description: Package Specification; ComponentLink3URL: http://pdfserv.maxim-ic.com/package_dwgs/21-0137.PDF
footprint T833+2 (SON, 8-Leads, Body 3x3 mm, Pitch 0.65mm, Thermal Pad 2.35x1.58mm, Maxim Recommended)
pins: 1 ~{RESET} (oc), 2 GND (power), 3 SWT (in), 4 ~{MR} (in), 5 SRT (in), 6 WDI (in), 7 WDS (in), 8 VCC (power), 9 EP (power)

## MAX16058ATA26+
designator U?
125nA Supervisory Circuit with Capacitor-Adjustable Reset and Watchdog Timeouts, open-drain reset, Watch-dog timer, 8-Pin TDFN, -40°C to +125°C, Pb-Free; DatasheetVersion: Rev 1, Jun-2010; PackageVersion: revJ, 2009; PackageReference: T833+2; PackageDescription: 8-Pin Plastic Very Very Thin Dual Flatpack No Leads, Exposed Pad, 3 x 3 x 0.8 mm Body, TDFN-EP, Pb-Free; Code_JEDEC: MO-229-WEEC; ComponentLink1Description: Manufacturer URL; ComponentLink1URL: http://www.maxim-ic.com; ComponentLink2Description: Datasheet; ComponentLink2URL: http://datasheets.maxim-ic.com/en/ds/MAX16056-MAX16059.pdf; ComponentLink3Description: Package Specification; ComponentLink3URL: http://pdfserv.maxim-ic.com/package_dwgs/21-0137.PDF
footprint T833+2 (SON, 8-Leads, Body 3x3 mm, Pitch 0.65mm, Thermal Pad 2.35x1.58mm, Maxim Recommended)
pins: 1 ~{RESET} (oc), 2 GND (power), 3 SWT (in), 4 ~{MR} (in), 5 SRT (in), 6 WDI (in), 7 WDS (in), 8 VCC (power), 9 EP (power)

## MAX16058ATA26+T
designator U?
125nA Supervisory Circuit with Capacitor-Adjustable Reset and Watchdog Timeouts, open-drain reset, Watch-dog timer, 8-Pin TDFN, -40°C to +125°C, Pb-Free, Tape and Reel; DatasheetVersion: Rev 1, Jun-2010; PackageVersion: revJ, 2009; PackageReference: T833+2; PackageDescription: 8-Pin Plastic Very Very Thin Dual Flatpack No Leads, Exposed Pad, 3 x 3 x 0.8 mm Body, TDFN-EP, Pb-Free; Code_JEDEC: MO-229-WEEC; ComponentLink1Description: Manufacturer URL; ComponentLink1URL: http://www.maxim-ic.com; ComponentLink2Description: Datasheet; ComponentLink2URL: http://datasheets.maxim-ic.com/en/ds/MAX16056-MAX16059.pdf; ComponentLink3Description: Package Specification; ComponentLink3URL: http://pdfserv.maxim-ic.com/package_dwgs/21-0137.PDF
footprint T833+2 (SON, 8-Leads, Body 3x3 mm, Pitch 0.65mm, Thermal Pad 2.35x1.58mm, Maxim Recommended)
pins: 1 ~{RESET} (oc), 2 GND (power), 3 SWT (in), 4 ~{MR} (in), 5 SRT (in), 6 WDI (in), 7 WDS (in), 8 VCC (power), 9 EP (power)

## MAX16058ATA27+T
designator U?
125nA Supervisory Circuit with Capacitor-Adjustable Reset and Watchdog Timeouts, open-drain reset, Watch-dog timer, 8-Pin TDFN, -40°C to +125°C, Pb-Free, Tape and Reel; DatasheetVersion: Rev 1, Jun-2010; PackageVersion: revJ, 2009; PackageReference: T833+2; PackageDescription: 8-Pin Plastic Very Very Thin Dual Flatpack No Leads, Exposed Pad, 3 x 3 x 0.8 mm Body, TDFN-EP, Pb-Free; Code_JEDEC: MO-229-WEEC; ComponentLink1Description: Manufacturer URL; ComponentLink1URL: http://www.maxim-ic.com; ComponentLink2Description: Datasheet; ComponentLink2URL: http://datasheets.maxim-ic.com/en/ds/MAX16056-MAX16059.pdf; ComponentLink3Description: Package Specification; ComponentLink3URL: http://pdfserv.maxim-ic.com/package_dwgs/21-0137.PDF
footprint T833+2 (SON, 8-Leads, Body 3x3 mm, Pitch 0.65mm, Thermal Pad 2.35x1.58mm, Maxim Recommended)
pins: 1 ~{RESET} (oc), 2 GND (power), 3 SWT (in), 4 ~{MR} (in), 5 SRT (in), 6 WDI (in), 7 WDS (in), 8 VCC (power), 9 EP (power)

## MAX16058ATA28+T
designator U?
125nA Supervisory Circuit with Capacitor-Adjustable Reset and Watchdog Timeouts, open-drain reset, Watch-dog timer, 8-Pin TDFN, -40°C to +125°C, Pb-Free, Tape and Reel; DatasheetVersion: Rev 1, Jun-2010; PackageVersion: revJ, 2009; PackageReference: T833+2; PackageDescription: 8-Pin Plastic Very Very Thin Dual Flatpack No Leads, Exposed Pad, 3 x 3 x 0.8 mm Body, TDFN-EP, Pb-Free; Code_JEDEC: MO-229-WEEC; ComponentLink1Description: Manufacturer URL; ComponentLink1URL: http://www.maxim-ic.com; ComponentLink2Description: Datasheet; ComponentLink2URL: http://datasheets.maxim-ic.com/en/ds/MAX16056-MAX16059.pdf; ComponentLink3Description: Package Specification; ComponentLink3URL: http://pdfserv.maxim-ic.com/package_dwgs/21-0137.PDF
footprint T833+2 (SON, 8-Leads, Body 3x3 mm, Pitch 0.65mm, Thermal Pad 2.35x1.58mm, Maxim Recommended)
pins: 1 ~{RESET} (oc), 2 GND (power), 3 SWT (in), 4 ~{MR} (in), 5 SRT (in), 6 WDI (in), 7 WDS (in), 8 VCC (power), 9 EP (power)

## MAX16058ATA29+
designator U?
125nA Supervisory Circuit with Capacitor-Adjustable Reset and Watchdog Timeouts, open-drain reset, Watch-dog timer, 8-Pin TDFN, -40°C to +125°C, Pb-Free; DatasheetVersion: Rev 1, Jun-2010; PackageVersion: revJ, 2009; PackageReference: T833+2; PackageDescription: 8-Pin Plastic Very Very Thin Dual Flatpack No Leads, Exposed Pad, 3 x 3 x 0.8 mm Body, TDFN-EP, Pb-Free; Code_JEDEC: MO-229-WEEC; ComponentLink1Description: Manufacturer URL; ComponentLink1URL: http://www.maxim-ic.com; ComponentLink2Description: Datasheet; ComponentLink2URL: http://datasheets.maxim-ic.com/en/ds/MAX16056-MAX16059.pdf; ComponentLink3Description: Package Specification; ComponentLink3URL: http://pdfserv.maxim-ic.com/package_dwgs/21-0137.PDF
footprint T833+2 (SON, 8-Leads, Body 3x3 mm, Pitch 0.65mm, Thermal Pad 2.35x1.58mm, Maxim Recommended)
pins: 1 ~{RESET} (oc), 2 GND (power), 3 SWT (in), 4 ~{MR} (in), 5 SRT (in), 6 WDI (in), 7 WDS (in), 8 VCC (power), 9 EP (power)

## MAX16058ATA29+T
designator U?
125nA Supervisory Circuit with Capacitor-Adjustable Reset and Watchdog Timeouts, open-drain reset, Watch-dog timer, 8-Pin TDFN, -40°C to +125°C, Pb-Free, Tape and Reel; DatasheetVersion: Rev 1, Jun-2010; PackageVersion: revJ, 2009; PackageReference: T833+2; PackageDescription: 8-Pin Plastic Very Very Thin Dual Flatpack No Leads, Exposed Pad, 3 x 3 x 0.8 mm Body, TDFN-EP, Pb-Free; Code_JEDEC: MO-229-WEEC; ComponentLink1Description: Manufacturer URL; ComponentLink1URL: http://www.maxim-ic.com; ComponentLink2Description: Datasheet; ComponentLink2URL: http://datasheets.maxim-ic.com/en/ds/MAX16056-MAX16059.pdf; ComponentLink3Description: Package Specification; ComponentLink3URL: http://pdfserv.maxim-ic.com/package_dwgs/21-0137.PDF
footprint T833+2 (SON, 8-Leads, Body 3x3 mm, Pitch 0.65mm, Thermal Pad 2.35x1.58mm, Maxim Recommended)
pins: 1 ~{RESET} (oc), 2 GND (power), 3 SWT (in), 4 ~{MR} (in), 5 SRT (in), 6 WDI (in), 7 WDS (in), 8 VCC (power), 9 EP (power)

## MAX16058ATA30+T
designator U?
125nA Supervisory Circuit with Capacitor-Adjustable Reset and Watchdog Timeouts, open-drain reset, Watch-dog timer, 8-Pin TDFN, -40°C to +125°C, Pb-Free, Tape and Reel; DatasheetVersion: Rev 1, Jun-2010; PackageVersion: revJ, 2009; PackageReference: T833+2; PackageDescription: 8-Pin Plastic Very Very Thin Dual Flatpack No Leads, Exposed Pad, 3 x 3 x 0.8 mm Body, TDFN-EP, Pb-Free; Code_JEDEC: MO-229-WEEC; ComponentLink1Description: Manufacturer URL; ComponentLink1URL: http://www.maxim-ic.com; ComponentLink2Description: Datasheet; ComponentLink2URL: http://datasheets.maxim-ic.com/en/ds/MAX16056-MAX16059.pdf; ComponentLink3Description: Package Specification; ComponentLink3URL: http://pdfserv.maxim-ic.com/package_dwgs/21-0137.PDF
footprint T833+2 (SON, 8-Leads, Body 3x3 mm, Pitch 0.65mm, Thermal Pad 2.35x1.58mm, Maxim Recommended)
pins: 1 ~{RESET} (oc), 2 GND (power), 3 SWT (in), 4 ~{MR} (in), 5 SRT (in), 6 WDI (in), 7 WDS (in), 8 VCC (power), 9 EP (power)

## MAX16058ATA31+
designator U?
125nA Supervisory Circuit with Capacitor-Adjustable Reset and Watchdog Timeouts, open-drain reset, Watch-dog timer, 8-Pin TDFN, -40°C to +125°C, Pb-Free; DatasheetVersion: Rev 1, Jun-2010; PackageVersion: revJ, 2009; PackageReference: T833+2; PackageDescription: 8-Pin Plastic Very Very Thin Dual Flatpack No Leads, Exposed Pad, 3 x 3 x 0.8 mm Body, TDFN-EP, Pb-Free; Code_JEDEC: MO-229-WEEC; ComponentLink1Description: Manufacturer URL; ComponentLink1URL: http://www.maxim-ic.com; ComponentLink2Description: Datasheet; ComponentLink2URL: http://datasheets.maxim-ic.com/en/ds/MAX16056-MAX16059.pdf; ComponentLink3Description: Package Specification; ComponentLink3URL: http://pdfserv.maxim-ic.com/package_dwgs/21-0137.PDF
footprint T833+2 (SON, 8-Leads, Body 3x3 mm, Pitch 0.65mm, Thermal Pad 2.35x1.58mm, Maxim Recommended)
pins: 1 ~{RESET} (oc), 2 GND (power), 3 SWT (in), 4 ~{MR} (in), 5 SRT (in), 6 WDI (in), 7 WDS (in), 8 VCC (power), 9 EP (power)

## MAX16058ATA31+T
designator U?
125nA Supervisory Circuit with Capacitor-Adjustable Reset and Watchdog Timeouts, open-drain reset, Watch-dog timer, 8-Pin TDFN, -40°C to +125°C, Pb-Free, Tape and Reel; DatasheetVersion: Rev 1, Jun-2010; PackageVersion: revJ, 2009; PackageReference: T833+2; PackageDescription: 8-Pin Plastic Very Very Thin Dual Flatpack No Leads, Exposed Pad, 3 x 3 x 0.8 mm Body, TDFN-EP, Pb-Free; Code_JEDEC: MO-229-WEEC; ComponentLink1Description: Manufacturer URL; ComponentLink1URL: http://www.maxim-ic.com; ComponentLink2Description: Datasheet; ComponentLink2URL: http://datasheets.maxim-ic.com/en/ds/MAX16056-MAX16059.pdf; ComponentLink3Description: Package Specification; ComponentLink3URL: http://pdfserv.maxim-ic.com/package_dwgs/21-0137.PDF
footprint T833+2 (SON, 8-Leads, Body 3x3 mm, Pitch 0.65mm, Thermal Pad 2.35x1.58mm, Maxim Recommended)
pins: 1 ~{RESET} (oc), 2 GND (power), 3 SWT (in), 4 ~{MR} (in), 5 SRT (in), 6 WDI (in), 7 WDS (in), 8 VCC (power), 9 EP (power)

## MAX16058ATA32+T
designator U?
125nA Supervisory Circuit with Capacitor-Adjustable Reset and Watchdog Timeouts, open-drain reset, Watch-dog timer, 8-Pin TDFN, -40°C to +125°C, Pb-Free, Tape and Reel; DatasheetVersion: Rev 1, Jun-2010; PackageVersion: revJ, 2009; PackageReference: T833+2; PackageDescription: 8-Pin Plastic Very Very Thin Dual Flatpack No Leads, Exposed Pad, 3 x 3 x 0.8 mm Body, TDFN-EP, Pb-Free; Code_JEDEC: MO-229-WEEC; ComponentLink1Description: Manufacturer URL; ComponentLink1URL: http://www.maxim-ic.com; ComponentLink2Description: Datasheet; ComponentLink2URL: http://datasheets.maxim-ic.com/en/ds/MAX16056-MAX16059.pdf; ComponentLink3Description: Package Specification; ComponentLink3URL: http://pdfserv.maxim-ic.com/package_dwgs/21-0137.PDF
footprint T833+2 (SON, 8-Leads, Body 3x3 mm, Pitch 0.65mm, Thermal Pad 2.35x1.58mm, Maxim Recommended)
pins: 1 ~{RESET} (oc), 2 GND (power), 3 SWT (in), 4 ~{MR} (in), 5 SRT (in), 6 WDI (in), 7 WDS (in), 8 VCC (power), 9 EP (power)

## MAX16058ATA33+T
designator U?
125nA Supervisory Circuit with Capacitor-Adjustable Reset and Watchdog Timeouts, open-drain reset, Watch-dog timer, 8-Pin TDFN, -40°C to +125°C, Pb-Free, Tape and Reel; DatasheetVersion: Rev 1, Jun-2010; PackageVersion: revJ, 2009; PackageReference: T833+2; PackageDescription: 8-Pin Plastic Very Very Thin Dual Flatpack No Leads, Exposed Pad, 3 x 3 x 0.8 mm Body, TDFN-EP, Pb-Free; Code_JEDEC: MO-229-WEEC; ComponentLink1Description: Manufacturer URL; ComponentLink1URL: http://www.maxim-ic.com; ComponentLink2Description: Datasheet; ComponentLink2URL: http://datasheets.maxim-ic.com/en/ds/MAX16056-MAX16059.pdf; ComponentLink3Description: Package Specification; ComponentLink3URL: http://pdfserv.maxim-ic.com/package_dwgs/21-0137.PDF
footprint T833+2 (SON, 8-Leads, Body 3x3 mm, Pitch 0.65mm, Thermal Pad 2.35x1.58mm, Maxim Recommended)
pins: 1 ~{RESET} (oc), 2 GND (power), 3 SWT (in), 4 ~{MR} (in), 5 SRT (in), 6 WDI (in), 7 WDS (in), 8 VCC (power), 9 EP (power)

## MAX16058ATA34+T
designator U?
125nA Supervisory Circuit with Capacitor-Adjustable Reset and Watchdog Timeouts, open-drain reset, Watch-dog timer, 8-Pin TDFN, -40°C to +125°C, Pb-Free, Tape and Reel; DatasheetVersion: Rev 1, Jun-2010; PackageVersion: revJ, 2009; PackageReference: T833+2; PackageDescription: 8-Pin Plastic Very Very Thin Dual Flatpack No Leads, Exposed Pad, 3 x 3 x 0.8 mm Body, TDFN-EP, Pb-Free; Code_JEDEC: MO-229-WEEC; ComponentLink1Description: Manufacturer URL; ComponentLink1URL: http://www.maxim-ic.com; ComponentLink2Description: Datasheet; ComponentLink2URL: http://datasheets.maxim-ic.com/en/ds/MAX16056-MAX16059.pdf; ComponentLink3Description: Package Specification; ComponentLink3URL: http://pdfserv.maxim-ic.com/package_dwgs/21-0137.PDF
footprint T833+2 (SON, 8-Leads, Body 3x3 mm, Pitch 0.65mm, Thermal Pad 2.35x1.58mm, Maxim Recommended)
pins: 1 ~{RESET} (oc), 2 GND (power), 3 SWT (in), 4 ~{MR} (in), 5 SRT (in), 6 WDI (in), 7 WDS (in), 8 VCC (power), 9 EP (power)